# EAGLE library part MPU-6500 (library block_parts)
Invensense MPU series Accelerometer Gyroscope Magnetometer MPU-6500 QFN24-3x3 <http://www.invensense.com/mems/gyro/documents/PS-MPU-6500A-01.pdf>
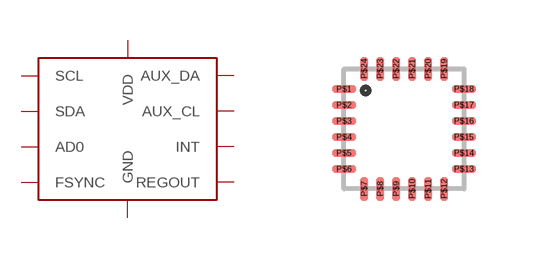
[diagram p3: symbol with the pads of QFN24-3X3-EXPOSED_PAD_KEEPOUT; footprint QFN24-3X3-EXPOSED_PAD_KEEPOUT]

Designator prefix -

## MPU-6500  [QFN24-3X3-EXPOSED_PAD_KEEPOUT]
P$7  AUX_CL
P$8  VDD  pwr
P$9  AD0  in
P$10  REGOUT  pwr
P$11  FSYNC  in
P$12  INT  out
P$13  VDD  pwr
P$18  GND  pwr
P$20  GND  pwr
P$21  AUX_DA
P$23  SCL  in
P$24  SDA

## Footprint QFN24-3X3-EXPOSED_PAD_KEEPOUT (pad centres in mm)
smd 0.6 x 0.2: P$1 -1.5,1; P$2 -1.5,0.6; P$3 -1.5,0.2; P$4 -1.5,-0.2; P$5 -1.5,-0.6; P$6 -1.5,-1; P$13 1.5,-1; P$14 1.5,-0.6; P$15 1.5,-0.2; P$16 1.5,0.2; P$17 1.5,0.6; P$18 1.5,1
smd 0.2 x 0.6: P$7 -1,-1.5; P$8 -0.6,-1.5; P$9 -0.2,-1.5; P$10 0.2,-1.5; P$11 0.6,-1.5; P$12 1,-1.5; P$19 1,1.5; P$20 0.6,1.5; P$21 0.2,1.5; P$22 -0.2,1.5; P$23 -0.6,1.5; P$24 -1,1.5